# Altium integrated library Common_Library.IntLib: 22 symbols
Pins are listed as number, name and electrical type; pins without a type are passive.

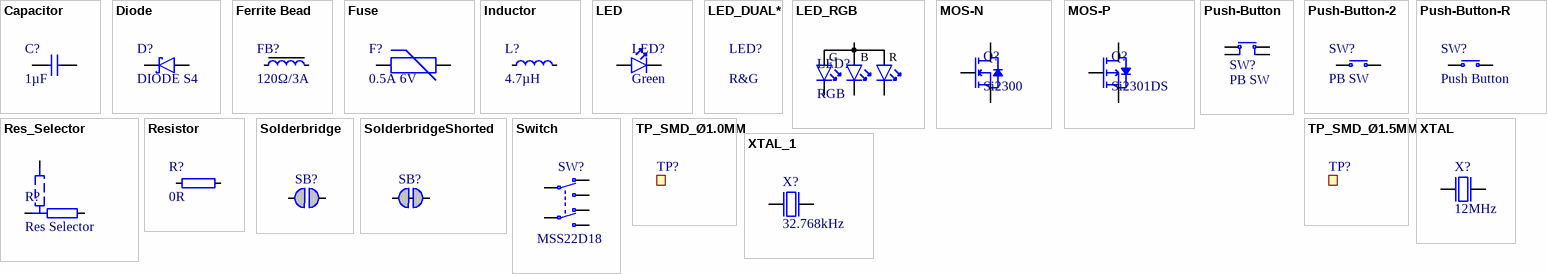
[diagram p0: symbols Capacitor to XTAL_1]

## Capacitor
designator C?, comment 1µF
common library; Tolerance: ±5%; Value: 1µF; Link of Supplier: *; Manufacturer: *; Manufacturer Part Number: *; Voltage Rating: *
footprint 0402 imperial (tolerant (L, W)=(0.1, 0.1))
footprint 0805_Imperial
footprint 1206_Imperial
footprint 1210_Imperial
footprint 0603_Imperial
pins: 1, 2

## Diode
designator D?, comment DIODE S4
common library; Value: DIODE S4; Note: *
footprint SOD-123
footprint DO-214AC
pins: 1 C, 2 A

## Ferrite Bead
designator FB?, comment 120Ω/3A
common library; Footprint: 0603; Value: 120Ω/3A; Manufacturer Part Number: *; Manufacturer: *
footprint 0402 imperial (R, L, C)
footprint 0603_Imperial
footprint 0805_Imperial
pins: 1, 2

## Fuse
designator F?, comment 0.5A 6V
common library; Value: 0.5A 6V
footprint 0805_Imperial
footprint 1206_Imperial
footprint 0603_Imperial
footprint 1210_Imperial
footprint FUSE_3.6x10MM
footprint FUSE_5x20MM
footprint 1218_Imperial
pins: 1, 2

## Inductor
designator L?, comment 4.7µH
common library; Value: 4.7µH; Supplier: *; Link of Supplier: *; Maximum Current: *; Footprint: 0402
footprint 0402 imperial (R, L, C)
footprint 0603_Imperial
footprint 0805_Imperial
footprint CD43_SMD (Power Inductor)
footprint DIP-0307
pins: 1, 2

## LED
designator LED?, comment Green
common library; Color: Green; Footprint: 0603
footprint LED_0603
footprint LED_0805
pins: 1 C, 2 A

## LED_DUAL*
designator LED?, comment R&G
common library; Color: R&G; Footprint: 0606
footprint LED_DUAL_0606

## LED_RGB
designator LED?, comment RGB
Type: RGB; Supplier: thegioiic
footprint LED_0603_RGB
pins: 1 R, 2 A, 3 B, 4 G

## MOS-N
designator Q?, comment Si2300
SOT-23 1-G 2-S 3-D
footprint SOT-23 (1-G 2-S 3-D)
pins: 1 G, 2 S, 3 D

## MOS-P
designator Q?, comment Si2301DS
SOT-23 1-G 2-S 3-D
footprint SOT-23 (1-G 2-S 3-D)
pins: 1 G, 2 S, 3 D

## Push-Button
designator SW?, comment PB SW
4-pin; Value: PB SW
footprint Switch-PB-4.5x4.5mm-SMD (Tactile Switch, SPNO, SMD, 4.5x4.5x3.8mm)
footprint Switch-PB-6.2x6.3mm-SMD
footprint Switch-PB-4.5x4.5mm-DIP (Tactile Switch, SPNO, SMD, 4.5x4.5x3.8mm)
pins: 1 N.O, 2 COM, 3 N.O, 4 COM

## Push-Button-2
designator SW?, comment PB SW
2-pin; Value: PB SW
footprint Switch-PB-6.2x6.2-2-PIN-DIP (Single Pole Single Throw (SPST))
pins: 1 N.O, 2 COM

## Push-Button-R
designator SW?, comment Push Button
3-pin
footprint Switch-PB-4.5x4.5mm-DIP-R (Tactile Switch, SPNO, SMD, 4.5x4.5x3.8mm)
pins: 1 N.O, 2 COM, 3 Shield hidden to GND

## Res_Selector
designator R?, comment Res Selector
Value: 0R; Name: Res Selector
footprint RES_SELECTOR_0402 (R)
pins: 1, 2, 3

## Resistor
designator R?, comment 0R
common library; Tolerance: ±5%; Value: 0R; Link of Supplier: *; Power Rating: *
footprint 0402 imperial (R, L, C)
footprint 0603_Imperial
footprint 0805_Imperial
footprint 1206_Imperial
footprint 1210_Imperial
footprint 2512_Imperial
footprint 1218_Imperial
pins: 1, 2

## Solderbridge
designator SB?  (value not drawn)  (no BOM)
Artikkelnr Noca: N.A.; Part Number: Solderbridge; Manufacturer: *; Manufacturer Part Number: *; Datasheet: *; LatestRevisionDate: 2009-12-14; Pin Count: 2; Publisher: Nordic Semiconductor; Published: 2009-12-14; Value: Solderbridge; Note: *; Supplier: *; Supplier part number: *; 2nd source Supplier: *; 2nd source part number: *; Footprint Doc: Solderbridge; Artikkelnr Simpro: N.A.
footprint Solderbridge_Small
footprint Solderbridge_Large
pins: 1 0, 2 1

## SolderbridgeShorted
designator SB?, comment Solderbridge  (value not drawn)  (net tie, no BOM)
Shorted Solderbridge; Part Number: Solderbridge Shorted; Artikkelnr Noca: N.A.; Manufacturer: *; Manufacturer Part Number: *; Datasheet: *; LatestRevisionDate: 2012-08-07; Pin Count: 2; Publisher: Nordic Semiconductor; Published: 2012-08-07; Value: Solderbridge; Note: *; Supplier: *; Supplier part number: *; 2nd source Supplier: *; 2nd source part number: *; Footprint Doc: Solderbridge_Shorted; Artikkelnr Simpro: N.A.
footprint Solderbridge_Shorted
footprint Solderbridge_SHORTED_1 (shorted by paste solder layer)
pins: 1 0, 2 1

## Switch
designator SW?, comment MSS22D18
slide switch, DPDT; Part Number: *; Manufacturer Part Number: *; Pin Count: 6; Value: MSS22D18; Note: *
footprint MSS22D18SMD
footprint MSS22D18DIP
pins: 1 N.O-1, 2 COM-1, 3 N.C-1, 4 N.O-2, 5 COM-2, 6 N.C-2

## TP_SMD_Ø1.0MM
designator TP?, comment Ø1.0mm,SMD  (value not drawn)  (no BOM)
1.0mm circular SMD testpad; Part Number: TP_SMD_Ø1.0MM; Manufacturer: Nordic Semiconductor; Artikkelnr Noca: N.A.; Manufacturer Part Number: *; Datasheet: *; LatestRevisionDate: 2013-06-11; Pin Count: 1; Publisher: Nordic Semiconductor; Published: 2013-06-11; Value: Ø1.0mm,SMD; Note: *; Supplier: *; Supplier part number: *; 2nd source Supplier: *; 2nd source part number: *; Footprint Doc: TP_SMD_Ø1.0mm; Artikkelnr Simpro: N.A.
footprint TP_SMD_Ø1.0mm
pins: 1

## TP_SMD_Ø1.5MM
designator TP?, comment Ø1.5mm,SMD  (value not drawn)  (no BOM)
1.0mm circular SMD testpad; Part Number: TP_SMD_Ø1.5MM; Manufacturer: Nordic Semiconductor; Artikkelnr Noca: N.A.; Manufacturer Part Number: *; LatestRevisionDate: 2016-06-02; Pin Count: 1; Publisher: Nordic Semiconductor; Published: 2016-06-02; Value: Ø1.5mm,SMD; Note: *; Supplier: *; Supplier part number: *; 2nd source Supplier: *; 2nd source part number: *; Footprint Doc: TP_SMD_Ø1.5mm; Artikkelnr Simpro: N.A.; ComponentLink1URL: *; ComponentLink1Description: Datasheet; ComponentLink2URL: *; ComponentLink2Description: Supplier link; HelpURL: *
footprint TP_SMD_Ø1.5mm
pins: 1

## XTAL
designator X?, comment 12MHz
4-pin; Value: 12MHz; Load capacitance: *; Manufacturer Part Number: *; Manufacturer: *
footprint XTAL_2016
footprint XTAL_3225
footprint XTAL_5032_4P
pins: 1 inp, 2 GND hidden to GND, 3 out, 4 GND hidden to GND

## XTAL_1
designator X?, comment 32.768kHz
2-pin; Value: 32.768kHz; Load capacitance: *; Manufacturer Part Number: *; Manufacturer: *
footprint XTAL_3215
footprint XTAL_5032
pins: 1 inp, 2 out